# Altium schematic symbol library STMicroelectronics STM32 F1.SchLib: 244 symbols (part 10 of 24)
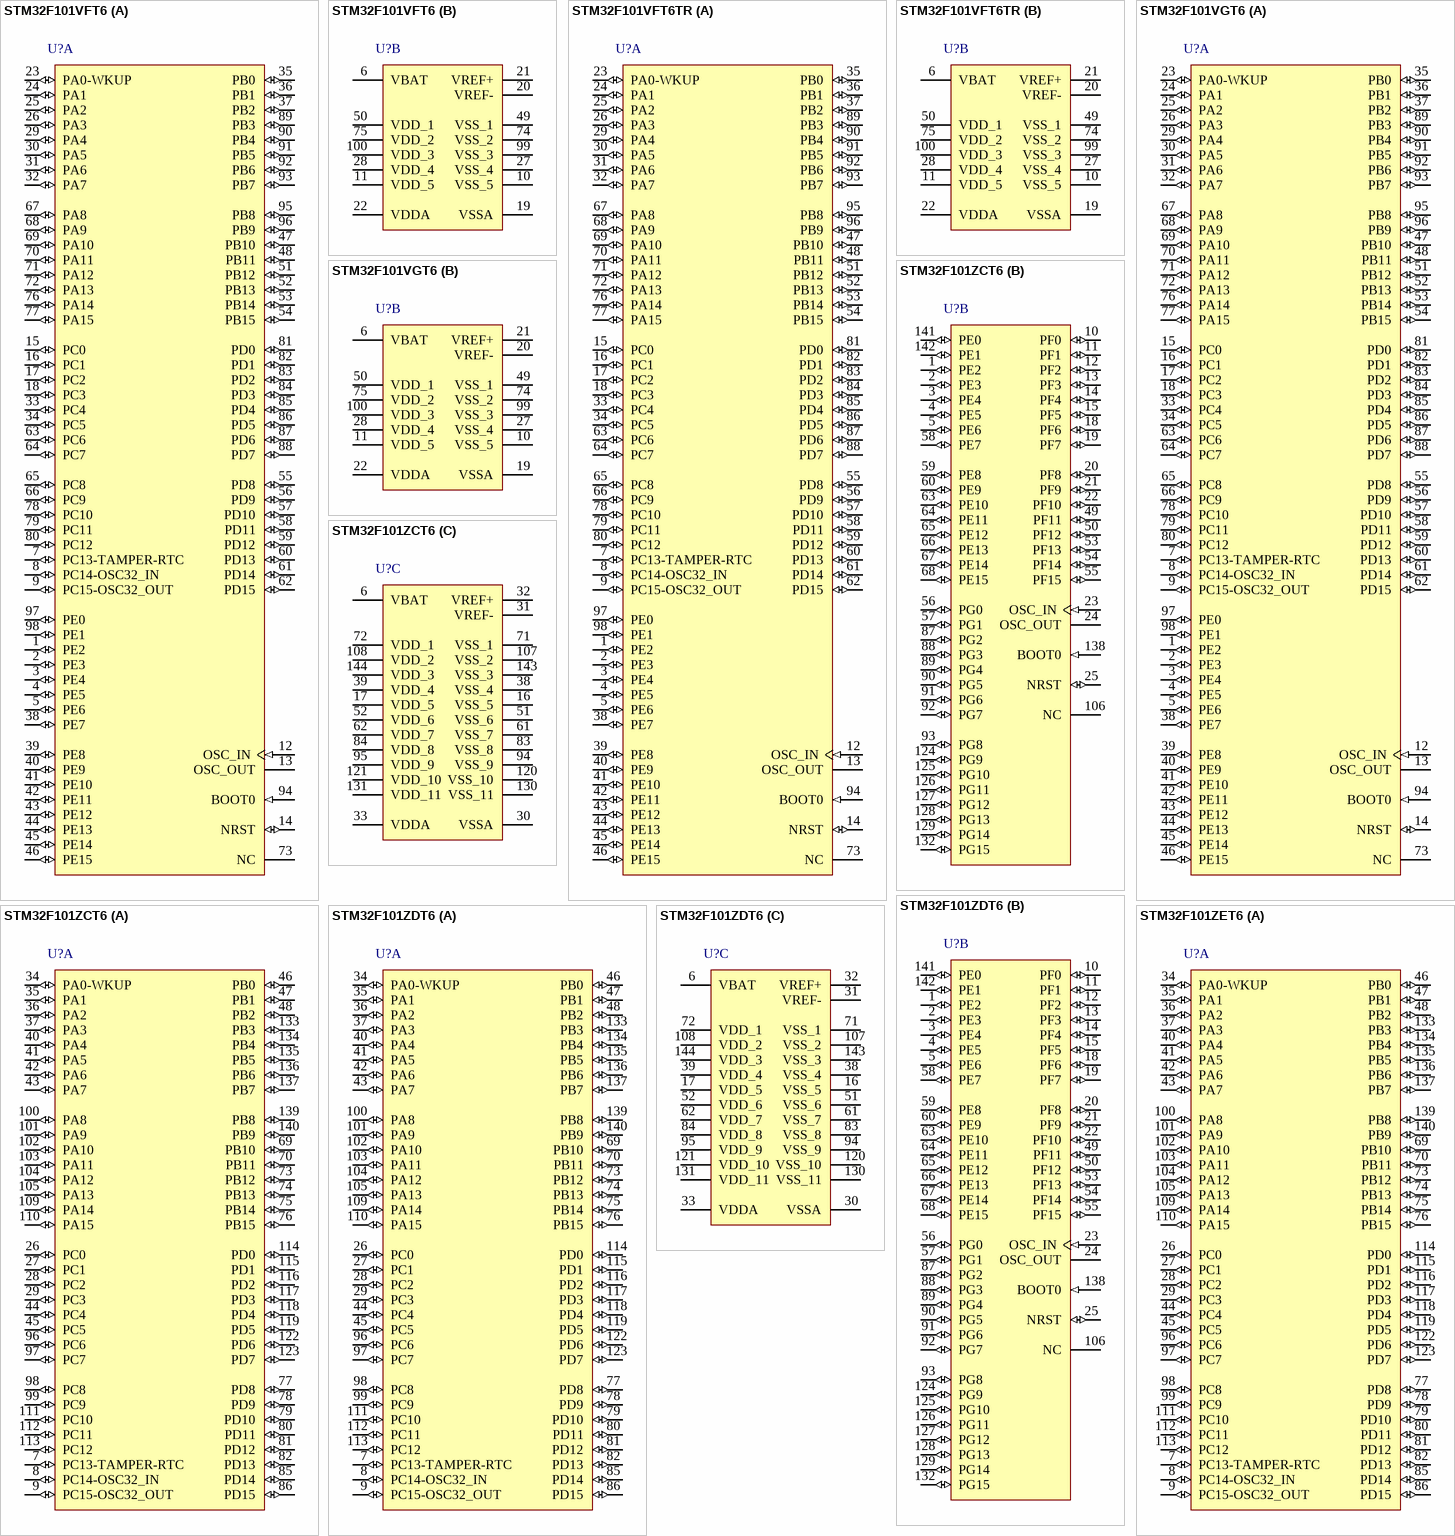
[diagram p51: symbols STM32F101VFT6 to STM32F101ZET6]

## STM32F101ZCT6
designator U?
ARM Cortex-M3 32-bit MCU, 256 KB Flash, 32 KB Internal RAM, 112 I/Os, 144-pin LQFP, -40 to 85 degC, Tray; PartNumber: STM32F101ZCT6; A/D Converter: 1x12-bit (16 Channel); D/A Converter: 1x12-bit (2 Channel); FLASH Size (Prog) (kB): 256; I/Os (High Current): 112; Internal RAM Size (kB): 32; Operating Frequency(F) (Processor speed) (MHz): 36; Supply Voltage(Vcc) min (V): 2; DatasheetVersion: Rev. 8; PackageVersion: Rev. 4, 06/2013; PackageReference: LQFP144; PackageDescription: 144-Pin Low Profile Quad Flat Package, 20 x 20 mm Body, 0.5 mm Pitch; Supplier 1: Digi-Key; Supplier Part Number 1: 497-11513-ND; Supplier 2: Farnell; Supplier Part Number 2: 1624133; Supplier 3: Newark; Supplier Part Number 3: 01P4096; Supplier 4: Mouser; Supplier Part Number 4: 511-STM32F101ZCT6; Core: ARM Cortex-M3; Packing: Tray; Mounting Technology: Surface Mount; ComponentLink1Description: Manufacturer URL; ComponentLink1URL: http://www.st.com/web/en/home.html; ComponentLink2Description: Datasheet; ComponentLink2URL: http://www.st.com/st-web-ui/static/active/en/resource/technical/document/datasheet/CD00191174.pdf; ComponentLink3Description: Package Specification; ComponentLink3URL: http://www.st.com/st-web-ui/static/active/en/resource/technical/document/datasheet/DM00037051.pdf
footprint STM-LQFP144_N (Thin QFP, 144-Leads, Body 20x20mm, Pitch 0.5mm, IPC Medium Density)
footprint STM-LQFP144_L (Thin QFP, 144-Leads, Body 20x20mm, Pitch 0.5mm, IPC High Density)
footprint STM-LQFP144_M (Thin QFP, 144-Leads, Body 20x20mm, Pitch 0.5mm, IPC Low Density)
footprint STM-LQFP144_V (Thin QFP, 144-Leads, Body 20x20mm, Pitch 0.5mm, ST Recommended)
part A pins: 7 PC13-TAMPER-RTC (io) "PC13-TAMPER-RTC/PC13/TAMPER-RTC", 8 PC14-OSC32_IN (io) "PC14-OSC32_IN/PC14/OSC32_IN", 9 PC15-OSC32_OUT (io) "PC15-OSC32_OUT/PC15/OSC32_OUT", 26 PC0 (io) "PC0/ADC_IN10", 27 PC1 (io) "PC1/ADC_IN11", 28 PC2 (io) "PC2/ADC_IN12", 29 PC3 (io) "PC3/ADC_IN13", 34 PA0-WKUP (io) "PA0-WKUP/PA0/WKUP/USART2_CTS/ADC_IN0/TIM5_CH1/TIM2_CH1_ETR", 35 PA1 (io) "PA1/USART2_RTS/ADC_IN1/TIM5_CH2/TIM2_CH2", 36 PA2 (io) "PA2/USART2_TX/TIM5_CH3/ADC_IN2/TIM2_CH3", 37 PA3 (io) "PA3/USART2_RX/TIM5_CH4/ADC_IN3/TIM2_CH4", 40 PA4 (io) "PA4/SPI1_NSS/DAC_OUT1/ADC_IN4/USART2_CK", 41 PA5 (io) "PA5/SPI1_SCK/DAC_OUT2/ADC_IN5", 42 PA6 (io) "PA6/SPI1_MISO/ADC_IN6/TIM3_CH1", 43 PA7 (io) "PA7/SPI1_MOSI/ADC_IN7/TIM3_CH2", 44 PC4 (io) "PC4/ADC_IN14", 45 PC5 (io) "PC5/ADC_IN15", 46 PB0 (io) "PB0/ADC_IN8/TIM3_CH3", 47 PB1 (io) "PB1/ADC_IN9/TIM3_CH4", 48 PB2 (io) "PB2/BOOT1", 69 PB10 (io) "PB10/I2C2_SCL/USART3_TX/TIM2_CH3", 70 PB11 (io) "PB11/I2C2_SDA/USART3_RX/TIM2_CH4", 73 PB12 (io) "PB12/SPI2_NSS/I2C2_SMBA/USART3_CK", 74 PB13 (io) "PB13/SPI2_SCK/USART3_CTS", 75 PB14 (io) "PB14/SPI2_MISO/USART3_RTS", 76 PB15 (io) "PB15/SPI2_MOSI", 77 PD8 (io) "PD8/FSMC_D13/USART3_TX", 78 PD9 (io) "PD9/FSMC_D14/USART3_RX", 79 PD10 (io) "PD10/FSMC_D15/USART3_CK", 80 PD11 (io) "PD11/FSMC_A16/USART3_CTS", 81 PD12 (io) "PD12/FSMC_A17/TIM4_CH1/USART3_RTS", 82 PD13 (io) "PD13/FSMC_A18/TIM4_CH2", 85 PD14 (io) "PD14/FSMC_D0/TIM4_CH3", 86 PD15 (io) "PD15/FSMC_D1/TIM4_CH4", 96 PC6 (io) "PC6/TIM3_CH1", 97 PC7 (io) "PC7/TIM3_CH2", 98 PC8 (io) "PC8/TIM3_CH3", 99 PC9 (io) "PC9/TIM3_CH4", 100 PA8 (io) "PA8/USART1_CK/MCO", 101 PA9 (io) "PA9/USART1_TX", 102 PA10 (io) "PA10/USART1_RX", 103 PA11 (io) "PA11/USART1_CTS", 104 PA12 (io) "PA12/USART1_RTS", 105 PA13 (io) "PA13/JTMS-SWDIO", 109 PA14 (io) "PA14/JTCK-SWCLK", 110 PA15 (io) "PA15/JTDI/SPI3_NSS/TIM2_CH1_ETR/SPI1_NSS", 111 PC10 (io) "PC10/UART4_TX/USART3_TX", 112 PC11 (io) "PC11/UART4_RX/USART3_RX", 113 PC12 (io) "PC12/UART5_TX/USART3_CK", 114 PD0 (io) "PD0/OSC_IN/FSMC_D2", 115 PD1 (io) "PD1/OSC_OUT/FSMC_D3", 116 PD2 (io) "PD2/TIM3_ETR/UART5_RX", 117 PD3 (io) "PD3/FSMC_CLK/USART2_CTS", 118 PD4 (io) "PD4/FSMC_NOE/USART2_RTS", 119 PD5 (io) "PD5/FSMC_NWE/USART2_TX", 122 PD6 (io) "PD6/FSMC_NWAIT/USART2_RX", 123 PD7 (io) "PD7/FSMC_NE1/FSMC_NCE2/USART2_CK", 133 PB3 (io) "PB3/JTDO/SPI3_SCK/TIM2_CH2/TRACESWO/SPI1_SCK", 134 PB4 (io) "PB4/NJTRST/SPI3_MISO/TIM3_CH1/SPI1_MISO", 135 PB5 (io) "PB5/I2C1_SMBA/SPI3_MOSI/TIM3_CH2/SPI1_MOSI", 136 PB6 (io) "PB6/I2C1_SCL/TIM4_CH1/USART1_TX", 137 PB7 (io) "PB7/I2C1_SDA/FSMC_NADV/TIM4_CH2/USART1_RX", 139 PB8 (io) "PB8/TIM4_CH3/I2C1_SCL", 140 PB9 (io) "PB9/TIM4_CH4/I2C1_SDA"
part B pins: 1 PE2 (io) "PE2/TRACECLK/FSMC_A23", 2 PE3 (io) "PE3/TRACED0/FSMC_A19", 3 PE4 (io) "PE4/TRACED1/FSMC_A20", 4 PE5 (io) "PE5/TRACED2/FSMC_A21", 5 PE6 (io) "PE6/TRACED3/FSMC_A22", 10 PF0 (io) "PF0/FSMC_A0", 11 PF1 (io) "PF1/FSMC_A1", 12 PF2 (io) "PF2/FSMC_A2", 13 PF3 (io) "PF3/FSMC_A3", 14 PF4 (io) "PF4/FSMC_A4", 15 PF5 (io) "PF5/FSMC_A5", 18 PF6 (io) "PF6/FSMC_NIORD", 19 PF7 (io) "PF7/FSMC_NREG", 20 PF8 (io) "PF8/FSMC_NIOWR", 21 PF9 (io) "PF9/FSMC_CD", 22 PF10 (io) "PF10/FSMC_INTR", 23 OSC_IN (in), 24 OSC_OUT, 25 NRST (io), 49 PF11 (io) "PF11/FSMC_NIOS16", 50 PF12 (io) "PF12/FSMC_A6", 53 PF13 (io) "PF13/FSMC_A7", 54 PF14 (io) "PF14/FSMC_A8", 55 PF15 (io) "PF15/FSMC_A9", 56 PG0 (io) "PG0/FSMC_A10", 57 PG1 (io) "PG1/FSMC_A11", 58 PE7 (io) "PE7/FSMC_D4", 59 PE8 (io) "PE8/FSMC_D5", 60 PE9 (io) "PE9/FSMC_D6", 63 PE10 (io) "PE10/FSMC_D7", 64 PE11 (io) "PE11/FSMC_D8", 65 PE12 (io) "PE12/FSMC_D9", 66 PE13 (io) "PE13/FSMC_D10", 67 PE14 (io) "PE14/FSMC_D11", 68 PE15 (io) "PE15/FSMC_D12", 87 PG2 (io) "PG2/FSMC_A12", 88 PG3 (io) "PG3/FSMC_A13", 89 PG4 (io) "PG4/FSMC_A14", 90 PG5 (io) "PG5/FSMC_A15", 91 PG6 (io) "PG6/FSMC_INT2", 92 PG7 (io) "PG7/FSMC_INT3", 93 PG8 (io), 106 NC, 124 PG9 (io) "PG9/FSMC_NE2/FSMC_NCE3", 125 PG10 (io) "PG10/FSMC_NE3/FSMC_NCE4_1", 126 PG11 (io) "PG11/FSMC_NCE4_2", 127 PG12 (io) "PG12/FSMC_NE4", 128 PG13 (io) "PG13/FSMC_A24", 129 PG14 (io) "PG14/FSMC_A25", 132 PG15 (io), 138 BOOT0 (in), 141 PE0 (io) "PE0/TIM4_ETR/FSMC_NBL0", 142 PE1 (io) "PE1/FSMC_NBL1"
part C pins: 6 VBAT (power), 16 VSS_5 (power), 17 VDD_5 (power), 30 VSSA (power), 31 VREF- (power), 32 VREF+ (power), 33 VDDA (power), 38 VSS_4 (power), 39 VDD_4 (power), 51 VSS_6 (power), 52 VDD_6 (power), 61 VSS_7 (power), 62 VDD_7 (power), 71 VSS_1 (power), 72 VDD_1 (power), 83 VSS_8 (power), 84 VDD_8 (power), 94 VSS_9 (power), 95 VDD_9 (power), 107 VSS_2 (power), 108 VDD_2 (power), 120 VSS_10 (power), 121 VDD_10 (power), 130 VSS_11 (power), 131 VDD_11 (power), 143 VSS_3 (power), 144 VDD_3 (power)

## STM32F101ZDT6
designator U?
ARM Cortex-M3 32-bit MCU, 384 KB Flash, 48 KB Internal RAM, 112 I/Os, 144-pin LQFP, -40 to 85 degC, Tray; PartNumber: STM32F101ZDT6; A/D Converter: 1x12-bit (16 Channel); D/A Converter: 1x12-bit (2 Channel); FLASH Size (Prog) (kB): 384; I/Os (High Current): 112; Internal RAM Size (kB): 48; Operating Frequency(F) (Processor speed) (MHz): 36; Supply Voltage(Vcc) min (V): 2; DatasheetVersion: Rev. 8; PackageVersion: Rev. 4, 06/2013; PackageReference: LQFP144; PackageDescription: 144-Pin Low Profile Quad Flat Package, 20 x 20 mm Body, 0.5 mm Pitch; Supplier 1: Digi-Key; Supplier Part Number 1: 497-11514-ND; Supplier 2: Farnell; Supplier Part Number 2: 1624134; Supplier 3: Newark; Supplier Part Number 3: 01P4097; Supplier 4: Mouser; Supplier Part Number 4: 511-STM32F101ZDT6; Core: ARM Cortex-M3; Packing: Tray; Mounting Technology: Surface Mount; ComponentLink1Description: Manufacturer URL; ComponentLink1URL: http://www.st.com/web/en/home.html; ComponentLink2Description: Datasheet; ComponentLink2URL: http://www.st.com/st-web-ui/static/active/en/resource/technical/document/datasheet/CD00191174.pdf; ComponentLink3Description: Package Specification; ComponentLink3URL: http://www.st.com/st-web-ui/static/active/en/resource/technical/document/datasheet/DM00037051.pdf
footprint STM-LQFP144_N (Thin QFP, 144-Leads, Body 20x20mm, Pitch 0.5mm, IPC Medium Density)
footprint STM-LQFP144_L (Thin QFP, 144-Leads, Body 20x20mm, Pitch 0.5mm, IPC High Density)
footprint STM-LQFP144_M (Thin QFP, 144-Leads, Body 20x20mm, Pitch 0.5mm, IPC Low Density)
footprint STM-LQFP144_V (Thin QFP, 144-Leads, Body 20x20mm, Pitch 0.5mm, ST Recommended)
part A pins: 7 PC13-TAMPER-RTC (io) "PC13-TAMPER-RTC/PC13/TAMPER-RTC", 8 PC14-OSC32_IN (io) "PC14-OSC32_IN/PC14/OSC32_IN", 9 PC15-OSC32_OUT (io) "PC15-OSC32_OUT/PC15/OSC32_OUT", 26 PC0 (io) "PC0/ADC_IN10", 27 PC1 (io) "PC1/ADC_IN11", 28 PC2 (io) "PC2/ADC_IN12", 29 PC3 (io) "PC3/ADC_IN13", 34 PA0-WKUP (io) "PA0-WKUP/PA0/WKUP/USART2_CTS/ADC_IN0/TIM5_CH1/TIM2_CH1_ETR", 35 PA1 (io) "PA1/USART2_RTS/ADC_IN1/TIM5_CH2/TIM2_CH2", 36 PA2 (io) "PA2/USART2_TX/TIM5_CH3/ADC_IN2/TIM2_CH3", 37 PA3 (io) "PA3/USART2_RX/TIM5_CH4/ADC_IN3/TIM2_CH4", 40 PA4 (io) "PA4/SPI1_NSS/DAC_OUT1/ADC_IN4/USART2_CK", 41 PA5 (io) "PA5/SPI1_SCK/DAC_OUT2/ADC_IN5", 42 PA6 (io) "PA6/SPI1_MISO/ADC_IN6/TIM3_CH1", 43 PA7 (io) "PA7/SPI1_MOSI/ADC_IN7/TIM3_CH2", 44 PC4 (io) "PC4/ADC_IN14", 45 PC5 (io) "PC5/ADC_IN15", 46 PB0 (io) "PB0/ADC_IN8/TIM3_CH3", 47 PB1 (io) "PB1/ADC_IN9/TIM3_CH4", 48 PB2 (io) "PB2/BOOT1", 69 PB10 (io) "PB10/I2C2_SCL/USART3_TX/TIM2_CH3", 70 PB11 (io) "PB11/I2C2_SDA/USART3_RX/TIM2_CH4", 73 PB12 (io) "PB12/SPI2_NSS/I2C2_SMBA/USART3_CK", 74 PB13 (io) "PB13/SPI2_SCK/USART3_CTS", 75 PB14 (io) "PB14/SPI2_MISO/USART3_RTS", 76 PB15 (io) "PB15/SPI2_MOSI", 77 PD8 (io) "PD8/FSMC_D13/USART3_TX", 78 PD9 (io) "PD9/FSMC_D14/USART3_RX", 79 PD10 (io) "PD10/FSMC_D15/USART3_CK", 80 PD11 (io) "PD11/FSMC_A16/USART3_CTS", 81 PD12 (io) "PD12/FSMC_A17/TIM4_CH1/USART3_RTS", 82 PD13 (io) "PD13/FSMC_A18/TIM4_CH2", 85 PD14 (io) "PD14/FSMC_D0/TIM4_CH3", 86 PD15 (io) "PD15/FSMC_D1/TIM4_CH4", 96 PC6 (io) "PC6/TIM3_CH1", 97 PC7 (io) "PC7/TIM3_CH2", 98 PC8 (io) "PC8/TIM3_CH3", 99 PC9 (io) "PC9/TIM3_CH4", 100 PA8 (io) "PA8/USART1_CK/MCO", 101 PA9 (io) "PA9/USART1_TX", 102 PA10 (io) "PA10/USART1_RX", 103 PA11 (io) "PA11/USART1_CTS", 104 PA12 (io) "PA12/USART1_RTS", 105 PA13 (io) "PA13/JTMS-SWDIO", 109 PA14 (io) "PA14/JTCK-SWCLK", 110 PA15 (io) "PA15/JTDI/SPI3_NSS/TIM2_CH1_ETR/SPI1_NSS", 111 PC10 (io) "PC10/UART4_TX/USART3_TX", 112 PC11 (io) "PC11/UART4_RX/USART3_RX", 113 PC12 (io) "PC12/UART5_TX/USART3_CK", 114 PD0 (io) "PD0/OSC_IN/FSMC_D2", 115 PD1 (io) "PD1/OSC_OUT/FSMC_D3", 116 PD2 (io) "PD2/TIM3_ETR/UART5_RX", 117 PD3 (io) "PD3/FSMC_CLK/USART2_CTS", 118 PD4 (io) "PD4/FSMC_NOE/USART2_RTS", 119 PD5 (io) "PD5/FSMC_NWE/USART2_TX", 122 PD6 (io) "PD6/FSMC_NWAIT/USART2_RX", 123 PD7 (io) "PD7/FSMC_NE1/FSMC_NCE2/USART2_CK", 133 PB3 (io) "PB3/JTDO/SPI3_SCK/TIM2_CH2/TRACESWO/SPI1_SCK", 134 PB4 (io) "PB4/NJTRST/SPI3_MISO/TIM3_CH1/SPI1_MISO", 135 PB5 (io) "PB5/I2C1_SMBA/SPI3_MOSI/TIM3_CH2/SPI1_MOSI", 136 PB6 (io) "PB6/I2C1_SCL/TIM4_CH1/USART1_TX", 137 PB7 (io) "PB7/I2C1_SDA/FSMC_NADV/TIM4_CH2/USART1_RX", 139 PB8 (io) "PB8/TIM4_CH3/I2C1_SCL", 140 PB9 (io) "PB9/TIM4_CH4/I2C1_SDA"
part B pins: 1 PE2 (io) "PE2/TRACECLK/FSMC_A23", 2 PE3 (io) "PE3/TRACED0/FSMC_A19", 3 PE4 (io) "PE4/TRACED1/FSMC_A20", 4 PE5 (io) "PE5/TRACED2/FSMC_A21", 5 PE6 (io) "PE6/TRACED3/FSMC_A22", 10 PF0 (io) "PF0/FSMC_A0", 11 PF1 (io) "PF1/FSMC_A1", 12 PF2 (io) "PF2/FSMC_A2", 13 PF3 (io) "PF3/FSMC_A3", 14 PF4 (io) "PF4/FSMC_A4", 15 PF5 (io) "PF5/FSMC_A5", 18 PF6 (io) "PF6/FSMC_NIORD", 19 PF7 (io) "PF7/FSMC_NREG", 20 PF8 (io) "PF8/FSMC_NIOWR", 21 PF9 (io) "PF9/FSMC_CD", 22 PF10 (io) "PF10/FSMC_INTR", 23 OSC_IN (in), 24 OSC_OUT, 25 NRST (io), 49 PF11 (io) "PF11/FSMC_NIOS16", 50 PF12 (io) "PF12/FSMC_A6", 53 PF13 (io) "PF13/FSMC_A7", 54 PF14 (io) "PF14/FSMC_A8", 55 PF15 (io) "PF15/FSMC_A9", 56 PG0 (io) "PG0/FSMC_A10", 57 PG1 (io) "PG1/FSMC_A11", 58 PE7 (io) "PE7/FSMC_D4", 59 PE8 (io) "PE8/FSMC_D5", 60 PE9 (io) "PE9/FSMC_D6", 63 PE10 (io) "PE10/FSMC_D7", 64 PE11 (io) "PE11/FSMC_D8", 65 PE12 (io) "PE12/FSMC_D9", 66 PE13 (io) "PE13/FSMC_D10", 67 PE14 (io) "PE14/FSMC_D11", 68 PE15 (io) "PE15/FSMC_D12", 87 PG2 (io) "PG2/FSMC_A12", 88 PG3 (io) "PG3/FSMC_A13", 89 PG4 (io) "PG4/FSMC_A14", 90 PG5 (io) "PG5/FSMC_A15", 91 PG6 (io) "PG6/FSMC_INT2", 92 PG7 (io) "PG7/FSMC_INT3", 93 PG8 (io), 106 NC, 124 PG9 (io) "PG9/FSMC_NE2/FSMC_NCE3", 125 PG10 (io) "PG10/FSMC_NE3/FSMC_NCE4_1", 126 PG11 (io) "PG11/FSMC_NCE4_2", 127 PG12 (io) "PG12/FSMC_NE4", 128 PG13 (io) "PG13/FSMC_A24", 129 PG14 (io) "PG14/FSMC_A25", 132 PG15 (io), 138 BOOT0 (in), 141 PE0 (io) "PE0/TIM4_ETR/FSMC_NBL0", 142 PE1 (io) "PE1/FSMC_NBL1"
part C pins: 6 VBAT (power), 16 VSS_5 (power), 17 VDD_5 (power), 30 VSSA (power), 31 VREF- (power), 32 VREF+ (power), 33 VDDA (power), 38 VSS_4 (power), 39 VDD_4 (power), 51 VSS_6 (power), 52 VDD_6 (power), 61 VSS_7 (power), 62 VDD_7 (power), 71 VSS_1 (power), 72 VDD_1 (power), 83 VSS_8 (power), 84 VDD_8 (power), 94 VSS_9 (power), 95 VDD_9 (power), 107 VSS_2 (power), 108 VDD_2 (power), 120 VSS_10 (power), 121 VDD_10 (power), 130 VSS_11 (power), 131 VDD_11 (power), 143 VSS_3 (power), 144 VDD_3 (power)

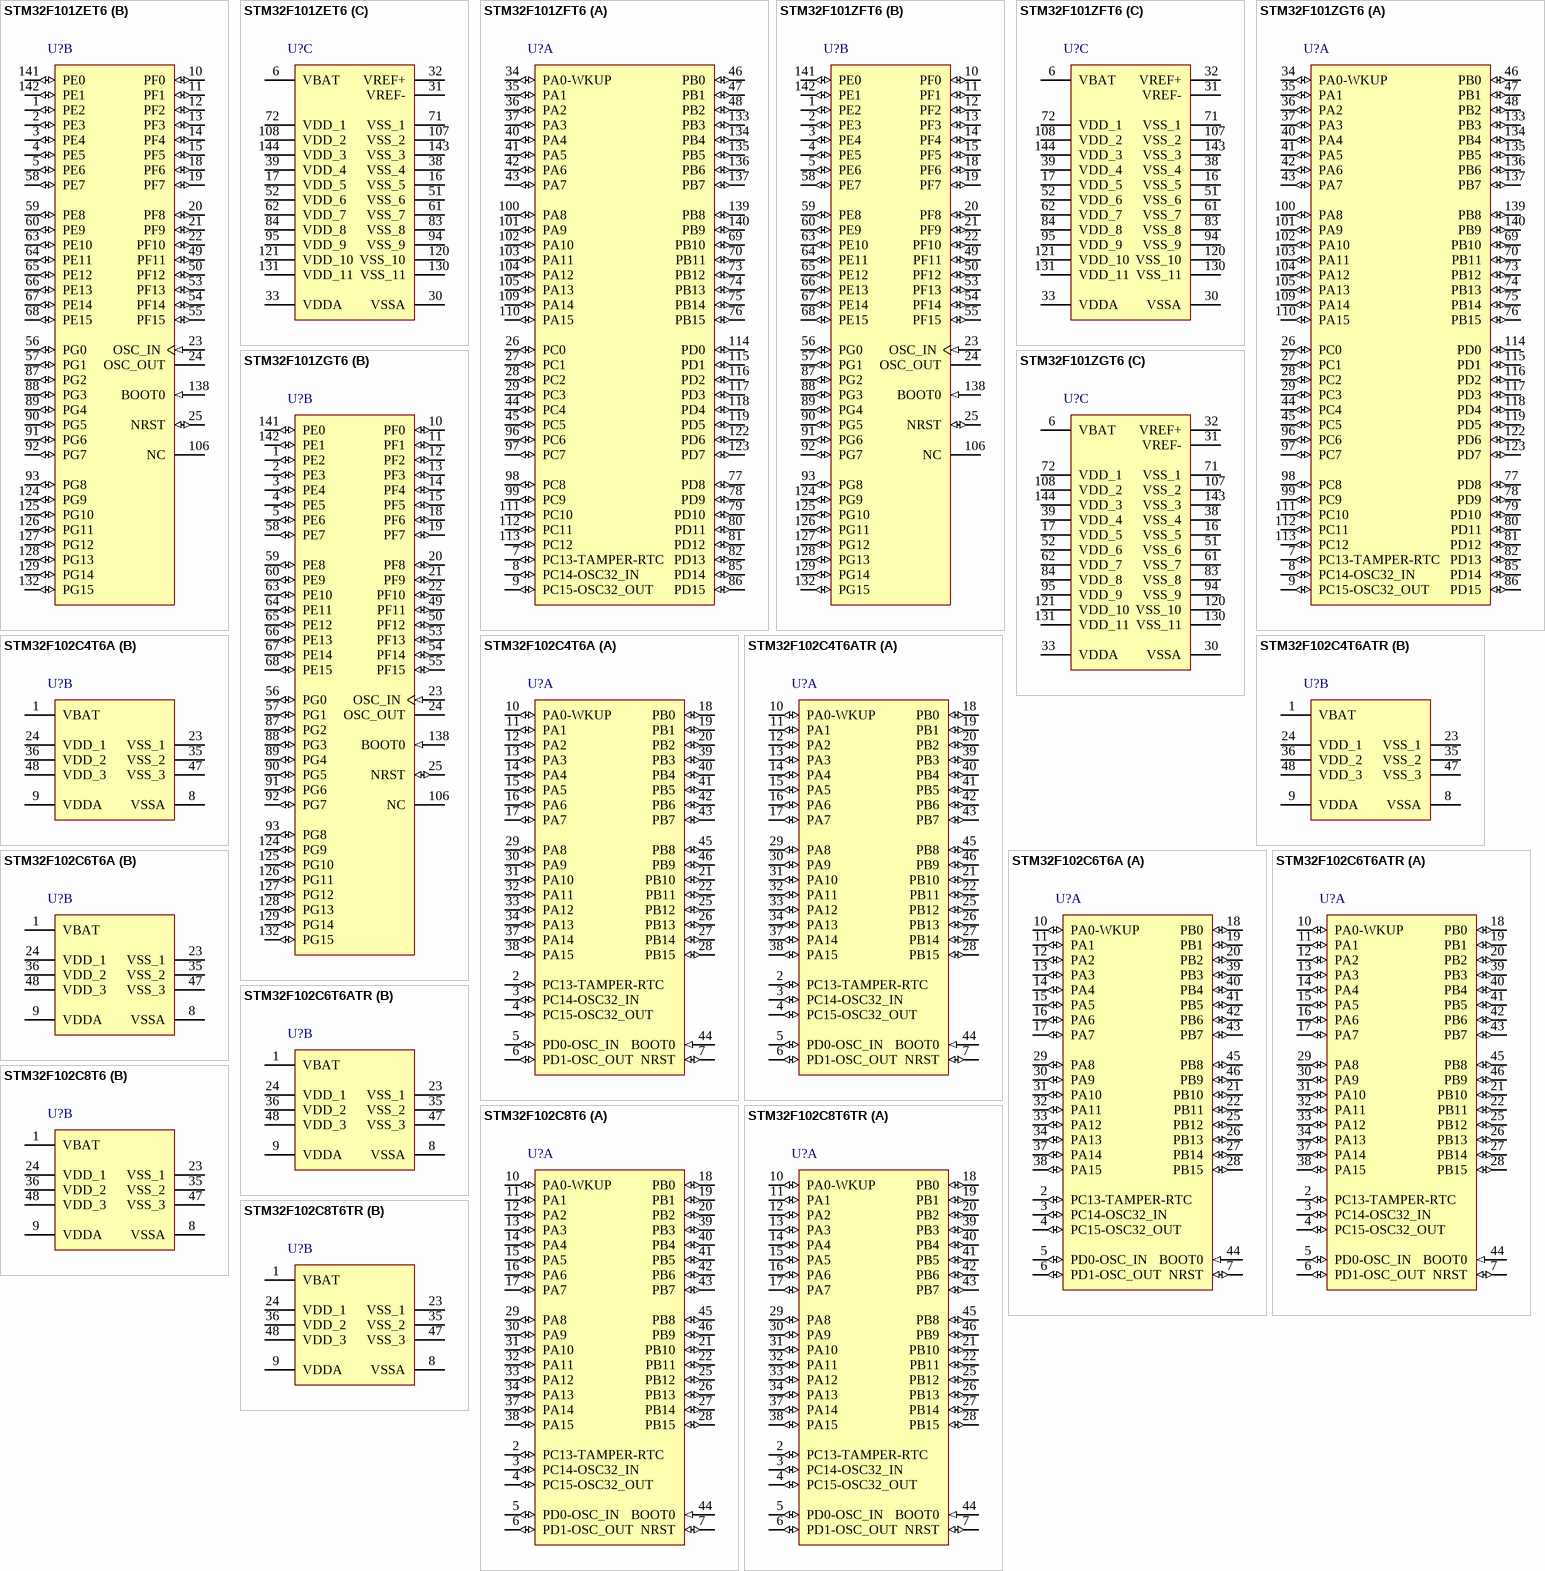
[diagram p16: symbols STM32F101ZET6 to STM32F102C8T6TR]

## STM32F101ZET6
designator U?
ARM Cortex-M3 32-bit MCU, 512 KB Flash, 48 KB Internal RAM, 112 I/Os, 144-pin LQFP, -40 to 85 degC, Tray; PartNumber: STM32F101ZET6; A/D Converter: 1x12-bit (16 Channel); D/A Converter: 1x12-bit (2 Channel); FLASH Size (Prog) (kB): 512; I/Os (High Current): 112; Internal RAM Size (kB): 48; Operating Frequency(F) (Processor speed) (MHz): 36; Supply Voltage(Vcc) min (V): 2; DatasheetVersion: Rev. 8; PackageVersion: Rev. 4, 06/2013; PackageReference: LQFP144; PackageDescription: 144-Pin Low Profile Quad Flat Package, 20 x 20 mm Body, 0.5 mm Pitch; Supplier 1: Digi-Key; Supplier Part Number 1: 497-6439-ND; Supplier 2: Farnell; Supplier Part Number 2: 1624135; Supplier 3: Newark; Supplier Part Number 3: 01P4098; Supplier 4: Newark; Supplier Part Number 4: 57P1209; Supplier 5: Mouser; Supplier Part Number 5: 511-STM32F101ZET6; Core: ARM Cortex-M3; Packing: Tray; Mounting Technology: Surface Mount; ComponentLink1Description: Manufacturer URL; ComponentLink1URL: http://www.st.com/web/en/home.html; ComponentLink2Description: Datasheet; ComponentLink2URL: http://www.st.com/st-web-ui/static/active/en/resource/technical/document/datasheet/CD00191174.pdf; ComponentLink3Description: Package Specification; ComponentLink3URL: http://www.st.com/st-web-ui/static/active/en/resource/technical/document/datasheet/DM00037051.pdf
footprint STM-LQFP144_N (Thin QFP, 144-Leads, Body 20x20mm, Pitch 0.5mm, IPC Medium Density)
footprint STM-LQFP144_L (Thin QFP, 144-Leads, Body 20x20mm, Pitch 0.5mm, IPC High Density)
footprint STM-LQFP144_M (Thin QFP, 144-Leads, Body 20x20mm, Pitch 0.5mm, IPC Low Density)
footprint STM-LQFP144_V (Thin QFP, 144-Leads, Body 20x20mm, Pitch 0.5mm, ST Recommended)
part A pins: 7 PC13-TAMPER-RTC (io) "PC13-TAMPER-RTC/PC13/TAMPER-RTC", 8 PC14-OSC32_IN (io) "PC14-OSC32_IN/PC14/OSC32_IN", 9 PC15-OSC32_OUT (io) "PC15-OSC32_OUT/PC15/OSC32_OUT", 26 PC0 (io) "PC0/ADC_IN10", 27 PC1 (io) "PC1/ADC_IN11", 28 PC2 (io) "PC2/ADC_IN12", 29 PC3 (io) "PC3/ADC_IN13", 34 PA0-WKUP (io) "PA0-WKUP/PA0/WKUP/USART2_CTS/ADC_IN0/TIM5_CH1/TIM2_CH1_ETR", 35 PA1 (io) "PA1/USART2_RTS/ADC_IN1/TIM5_CH2/TIM2_CH2", 36 PA2 (io) "PA2/USART2_TX/TIM5_CH3/ADC_IN2/TIM2_CH3", 37 PA3 (io) "PA3/USART2_RX/TIM5_CH4/ADC_IN3/TIM2_CH4", 40 PA4 (io) "PA4/SPI1_NSS/DAC_OUT1/ADC_IN4/USART2_CK", 41 PA5 (io) "PA5/SPI1_SCK/DAC_OUT2/ADC_IN5", 42 PA6 (io) "PA6/SPI1_MISO/ADC_IN6/TIM3_CH1", 43 PA7 (io) "PA7/SPI1_MOSI/ADC_IN7/TIM3_CH2", 44 PC4 (io) "PC4/ADC_IN14", 45 PC5 (io) "PC5/ADC_IN15", 46 PB0 (io) "PB0/ADC_IN8/TIM3_CH3", 47 PB1 (io) "PB1/ADC_IN9/TIM3_CH4", 48 PB2 (io) "PB2/BOOT1", 69 PB10 (io) "PB10/I2C2_SCL/USART3_TX/TIM2_CH3", 70 PB11 (io) "PB11/I2C2_SDA/USART3_RX/TIM2_CH4", 73 PB12 (io) "PB12/SPI2_NSS/I2C2_SMBA/USART3_CK", 74 PB13 (io) "PB13/SPI2_SCK/USART3_CTS", 75 PB14 (io) "PB14/SPI2_MISO/USART3_RTS", 76 PB15 (io) "PB15/SPI2_MOSI", 77 PD8 (io) "PD8/FSMC_D13/USART3_TX", 78 PD9 (io) "PD9/FSMC_D14/USART3_RX", 79 PD10 (io) "PD10/FSMC_D15/USART3_CK", 80 PD11 (io) "PD11/FSMC_A16/USART3_CTS", 81 PD12 (io) "PD12/FSMC_A17/TIM4_CH1/USART3_RTS", 82 PD13 (io) "PD13/FSMC_A18/TIM4_CH2", 85 PD14 (io) "PD14/FSMC_D0/TIM4_CH3", 86 PD15 (io) "PD15/FSMC_D1/TIM4_CH4", 96 PC6 (io) "PC6/TIM3_CH1", 97 PC7 (io) "PC7/TIM3_CH2", 98 PC8 (io) "PC8/TIM3_CH3", 99 PC9 (io) "PC9/TIM3_CH4", 100 PA8 (io) "PA8/USART1_CK/MCO", 101 PA9 (io) "PA9/USART1_TX", 102 PA10 (io) "PA10/USART1_RX", 103 PA11 (io) "PA11/USART1_CTS", 104 PA12 (io) "PA12/USART1_RTS", 105 PA13 (io) "PA13/JTMS-SWDIO", 109 PA14 (io) "PA14/JTCK-SWCLK", 110 PA15 (io) "PA15/JTDI/SPI3_NSS/TIM2_CH1_ETR/SPI1_NSS", 111 PC10 (io) "PC10/UART4_TX/USART3_TX", 112 PC11 (io) "PC11/UART4_RX/USART3_RX", 113 PC12 (io) "PC12/UART5_TX/USART3_CK", 114 PD0 (io) "PD0/OSC_IN/FSMC_D2", 115 PD1 (io) "PD1/OSC_OUT/FSMC_D3", 116 PD2 (io) "PD2/TIM3_ETR/UART5_RX", 117 PD3 (io) "PD3/FSMC_CLK/USART2_CTS", 118 PD4 (io) "PD4/FSMC_NOE/USART2_RTS", 119 PD5 (io) "PD5/FSMC_NWE/USART2_TX", 122 PD6 (io) "PD6/FSMC_NWAIT/USART2_RX", 123 PD7 (io) "PD7/FSMC_NE1/FSMC_NCE2/USART2_CK", 133 PB3 (io) "PB3/JTDO/SPI3_SCK/TIM2_CH2/TRACESWO/SPI1_SCK", 134 PB4 (io) "PB4/NJTRST/SPI3_MISO/TIM3_CH1/SPI1_MISO", 135 PB5 (io) "PB5/I2C1_SMBA/SPI3_MOSI/TIM3_CH2/SPI1_MOSI", 136 PB6 (io) "PB6/I2C1_SCL/TIM4_CH1/USART1_TX", 137 PB7 (io) "PB7/I2C1_SDA/FSMC_NADV/TIM4_CH2/USART1_RX", 139 PB8 (io) "PB8/TIM4_CH3/I2C1_SCL", 140 PB9 (io) "PB9/TIM4_CH4/I2C1_SDA"
part B pins: 1 PE2 (io) "PE2/TRACECLK/FSMC_A23", 2 PE3 (io) "PE3/TRACED0/FSMC_A19", 3 PE4 (io) "PE4/TRACED1/FSMC_A20", 4 PE5 (io) "PE5/TRACED2/FSMC_A21", 5 PE6 (io) "PE6/TRACED3/FSMC_A22", 10 PF0 (io) "PF0/FSMC_A0", 11 PF1 (io) "PF1/FSMC_A1", 12 PF2 (io) "PF2/FSMC_A2", 13 PF3 (io) "PF3/FSMC_A3", 14 PF4 (io) "PF4/FSMC_A4", 15 PF5 (io) "PF5/FSMC_A5", 18 PF6 (io) "PF6/FSMC_NIORD", 19 PF7 (io) "PF7/FSMC_NREG", 20 PF8 (io) "PF8/FSMC_NIOWR", 21 PF9 (io) "PF9/FSMC_CD", 22 PF10 (io) "PF10/FSMC_INTR", 23 OSC_IN (in), 24 OSC_OUT, 25 NRST (io), 49 PF11 (io) "PF11/FSMC_NIOS16", 50 PF12 (io) "PF12/FSMC_A6", 53 PF13 (io) "PF13/FSMC_A7", 54 PF14 (io) "PF14/FSMC_A8", 55 PF15 (io) "PF15/FSMC_A9", 56 PG0 (io) "PG0/FSMC_A10", 57 PG1 (io) "PG1/FSMC_A11", 58 PE7 (io) "PE7/FSMC_D4", 59 PE8 (io) "PE8/FSMC_D5", 60 PE9 (io) "PE9/FSMC_D6", 63 PE10 (io) "PE10/FSMC_D7", 64 PE11 (io) "PE11/FSMC_D8", 65 PE12 (io) "PE12/FSMC_D9", 66 PE13 (io) "PE13/FSMC_D10", 67 PE14 (io) "PE14/FSMC_D11", 68 PE15 (io) "PE15/FSMC_D12", 87 PG2 (io) "PG2/FSMC_A12", 88 PG3 (io) "PG3/FSMC_A13", 89 PG4 (io) "PG4/FSMC_A14", 90 PG5 (io) "PG5/FSMC_A15", 91 PG6 (io) "PG6/FSMC_INT2", 92 PG7 (io) "PG7/FSMC_INT3", 93 PG8 (io), 106 NC, 124 PG9 (io) "PG9/FSMC_NE2/FSMC_NCE3", 125 PG10 (io) "PG10/FSMC_NE3/FSMC_NCE4_1", 126 PG11 (io) "PG11/FSMC_NCE4_2", 127 PG12 (io) "PG12/FSMC_NE4", 128 PG13 (io) "PG13/FSMC_A24", 129 PG14 (io) "PG14/FSMC_A25", 132 PG15 (io), 138 BOOT0 (in), 141 PE0 (io) "PE0/TIM4_ETR/FSMC_NBL0", 142 PE1 (io) "PE1/FSMC_NBL1"
part C pins: 6 VBAT (power), 16 VSS_5 (power), 17 VDD_5 (power), 30 VSSA (power), 31 VREF- (power), 32 VREF+ (power), 33 VDDA (power), 38 VSS_4 (power), 39 VDD_4 (power), 51 VSS_6 (power), 52 VDD_6 (power), 61 VSS_7 (power), 62 VDD_7 (power), 71 VSS_1 (power), 72 VDD_1 (power), 83 VSS_8 (power), 84 VDD_8 (power), 94 VSS_9 (power), 95 VDD_9 (power), 107 VSS_2 (power), 108 VDD_2 (power), 120 VSS_10 (power), 121 VDD_10 (power), 130 VSS_11 (power), 131 VDD_11 (power), 143 VSS_3 (power), 144 VDD_3 (power)

## STM32F101ZFT6
designator U?
ARM Cortex-M3 32-bit MCU, 768 KB Flash, 80 KB Internal RAM, 112 I/Os, 144-pin LQFP, -40 to 85 degC, Tray; PartNumber: STM32F101ZFT6; A/D Converter: 2x12-bit (16 Channels); D/A Converter: 2x12-bit (2 Channels); FLASH Size (Prog) (kB): 768; I/Os (High Current): 112; Internal RAM Size (kB): 80; Operating Frequency(F) (Processor speed) (MHz): 36; Supply Voltage(Vcc) min (V): 2; DatasheetVersion: Rev. 2; PackageVersion: Rev. 4, 06/2013; PackageReference: LQFP144; PackageDescription: 144-Pin Low Profile Quad Flat Package, 20 x 20 mm Body, 0.5 mm Pitch; Supplier 1: Farnell; Supplier Part Number 1: 2333356; Supplier 2: Newark; Supplier Part Number 2: 99W9775; Supplier 3: Mouser; Supplier Part Number 3: N/A; Core: ARM Cortex-M3; Packing: Tray; Mounting Technology: Surface Mount; ComponentLink1Description: Manufacturer URL; ComponentLink1URL: http://www.st.com/web/en/home.html; ComponentLink2Description: Datasheet; ComponentLink2URL: http://www.st.com/st-web-ui/static/active/en/resource/technical/document/datasheet/CD00253739.pdf; ComponentLink3Description: Package Specification; ComponentLink3URL: http://www.st.com/st-web-ui/static/active/en/resource/technical/document/datasheet/DM00037051.pdf
footprint STM-LQFP144_N (Thin QFP, 144-Leads, Body 20x20mm, Pitch 0.5mm, IPC Medium Density)
footprint STM-LQFP144_L (Thin QFP, 144-Leads, Body 20x20mm, Pitch 0.5mm, IPC High Density)
footprint STM-LQFP144_M (Thin QFP, 144-Leads, Body 20x20mm, Pitch 0.5mm, IPC Low Density)
footprint STM-LQFP144_V (Thin QFP, 144-Leads, Body 20x20mm, Pitch 0.5mm, ST Recommended)
part A pins: 7 PC13-TAMPER-RTC (io) "PC13-TAMPER-RTC/PC13/TAMPER-RTC", 8 PC14-OSC32_IN (io) "PC14-OSC32_IN/PC14/OSC32_IN", 9 PC15-OSC32_OUT (io) "PC15-OSC32_OUT/PC15/OSC32_OUT", 26 PC0 (io) "PC0/ADC_IN10", 27 PC1 (io) "PC1/ADC_IN11", 28 PC2 (io) "PC2/ADC_IN12", 29 PC3 (io) "PC3/ADC_IN13", 34 PA0-WKUP (io) "PA0-WKUP/PA0/WKUP/USART2_CTS/ADC_IN0/TIM5_CH1/TIM2_CH1_ETR", 35 PA1 (io) "PA1/USART2_RTS/ADC_IN1/TIM5_CH2/TIM2_CH2", 36 PA2 (io) "PA2/USART2_TX/TIM5_CH3/ADC_IN2/TIM2_CH3/TIM9_CH1", 37 PA3 (io) "PA3/USART2_RX/TIM5_CH4/ADC_IN3/TIM2_CH4/TIM9_CH2", 40 PA4 (io) "PA4/SPI1_NSS/DAC_OUT1/ADC_IN4/USART2_CK", 41 PA5 (io) "PA5/SPI1_SCK/DAC_OUT2/ADC_IN5", 42 PA6 (io) "PA6/SPI1_MISO/ADC_IN6/TIM3_CH1/TIM13_CH1", 43 PA7 (io) "PA7/SPI1_MOSI/ADC_IN7/TIM3_CH2/TIM14_CH1", 44 PC4 (io) "PC4/ADC_IN14", 45 PC5 (io) "PC5/ADC_IN15", 46 PB0 (io) "PB0/ADC_IN8/TIM3_CH3", 47 PB1 (io) "PB1/ADC_IN9/TIM3_CH4", 48 PB2 (io) "PB2/BOOT1", 69 PB10 (io) "PB10/I2C2_SCL/USART3_TX/TIM2_CH3", 70 PB11 (io) "PB11/I2C2_SDA/USART3_RX/TIM2_CH4", 73 PB12 (io) "PB12/SPI2_NSS/I2C2_SMBA/USART3_CK", 74 PB13 (io) "PB13/SPI2_SCK/USART3_CTS", 75 PB14 (io) "PB14/SPI2_MISO/USART3_RTS/TIM12_CH1", 76 PB15 (io) "PB15/SPI2_MOSI/TIM12_CH2", 77 PD8 (io) "PD8/FSMC_D13/USART3_TX", 78 PD9 (io) "PD9/FSMC_D14/USART3_RX", 79 PD10 (io) "PD10/FSMC_D15/USART3_CK", 80 PD11 (io) "PD11/FSMC_A16/USART3_CTS", 81 PD12 (io) "PD12/FSMC_A17/TIM4_CH1/USART3_RTS", 82 PD13 (io) "PD13/FSMC_A18/TIM4_CH2", 85 PD14 (io) "PD14/FSMC_D0/TIM4_CH3", 86 PD15 (io) "PD15/FSMC_D1/TIM4_CH4", 96 PC6 (io) "PC6/TIM3_CH1", 97 PC7 (io) "PC7/TIM3_CH2", 98 PC8 (io) "PC8/TIM3_CH3", 99 PC9 (io) "PC9/TIM3_CH4", 100 PA8 (io) "PA8/USART1_CK/MCO", 101 PA9 (io) "PA9/USART1_TX", 102 PA10 (io) "PA10/USART1_RX", 103 PA11 (io) "PA11/USART1_CTS", 104 PA12 (io) "PA12/USART1_RTS", 105 PA13 (io) "PA13/JTMS-SWDIO", 109 PA14 (io) "PA14/JTCK-SWCLK", 110 PA15 (io) "PA15/JTDI/SPI3_NSS/TIM2_CH1_ETR/SPI1_NSS", 111 PC10 (io) "PC10/UART4_TX/USART3_TX", 112 PC11 (io) "PC11/UART4_RX/USART3_RX", 113 PC12 (io) "PC12/UART5_TX/USART3_CK", 114 PD0 (io) "PD0/OSC_IN/FSMC_D2", 115 PD1 (io) "PD1/OSC_OUT/FSMC_D3", 116 PD2 (io) "PD2/TIM3_ETR/UART5_RX", 117 PD3 (io) "PD3/FSMC_CLK/USART2_CTS", 118 PD4 (io) "PD4/FSMC_NOE/USART2_RTS", 119 PD5 (io) "PD5/FSMC_NWE/USART2_TX", 122 PD6 (io) "PD6/FSMC_NWAIT/USART2_RX", 123 PD7 (io) "PD7/FSMC_NE1/FSMC_NCE2/USART2_CK", 133 PB3 (io) "PB3/JTDO/SPI3_SCK/TIM2_CH2/TRACESWO/SPI1_SCK", 134 PB4 (io) "PB4/NJTRST/SPI3_MISO/TIM3_CH1/SPI1_MISO", 135 PB5 (io) "PB5/I2C1_SMBA/SPI3_MOSI/TIM3_CH2/SPI1_MOSI", 136 PB6 (io) "PB6/I2C1_SCL/TIM4_CH1/USART1_TX", 137 PB7 (io) "PB7/I2C1_SDA/FSMC_NADV/TIM4_CH2/USART1_RX", 139 PB8 (io) "PB8/TIM4_CH3/I2C1_SCL", 140 PB9 (io) "PB9/TIM4_CH4/I2C1_SDA"
part B pins: 1 PE2 (io) "PE2/TRACECLK/FSMC_A23", 2 PE3 (io) "PE3/TRACED0/FSMC_A19", 3 PE4 (io) "PE4/TRACED1/FSMC_A20", 4 PE5 (io) "PE5/TRACED2/FSMC_A21/TIM9_CH1", 5 PE6 (io) "PE6/TRACED3/FSMC_A22/TIM9_CH2", 10 PF0 (io) "PF0/FSMC_A0", 11 PF1 (io) "PF1/FSMC_A1", 12 PF2 (io) "PF2/FSMC_A2", 13 PF3 (io) "PF3/FSMC_A3", 14 PF4 (io) "PF4/FSMC_A4", 15 PF5 (io) "PF5/FSMC_A5", 18 PF6 (io) "PF6/FSMC_NIORD/TIM10_CH1", 19 PF7 (io) "PF7/FSMC_NREG/TIM11_CH1", 20 PF8 (io) "PF8/FSMC_NIOWR/TIM3_CH1", 21 PF9 (io) "PF9/FSMC_CD/TIM14_CH1", 22 PF10 (io) "PF10/FSMC_INTR", 23 OSC_IN (in), 24 OSC_OUT, 25 NRST (io), 49 PF11 (io) "PF11/FSMC_NIOS16", 50 PF12 (io) "PF12/FSMC_A6", 53 PF13 (io) "PF13/FSMC_A7", 54 PF14 (io) "PF14/FSMC_A8", 55 PF15 (io) "PF15/FSMC_A9", 56 PG0 (io) "PG0/FSMC_A10", 57 PG1 (io) "PG1/FSMC_A11", 58 PE7 (io) "PE7/FSMC_D4", 59 PE8 (io) "PE8/FSMC_D5", 60 PE9 (io) "PE9/FSMC_D6", 63 PE10 (io) "PE10/FSMC_D7", 64 PE11 (io) "PE11/FSMC_D8", 65 PE12 (io) "PE12/FSMC_D9", 66 PE13 (io) "PE13/FSMC_D10", 67 PE14 (io) "PE14/FSMC_D11", 68 PE15 (io) "PE15/FSMC_D12", 87 PG2 (io) "PG2/FSMC_A12", 88 PG3 (io) "PG3/FSMC_A13", 89 PG4 (io) "PG4/FSMC_A14", 90 PG5 (io) "PG5/FSMC_A15", 91 PG6 (io) "PG6/FSMC_INT2", 92 PG7 (io) "PG7/FSMC_INT3", 93 PG8 (io), 106 NC, 124 PG9 (io) "PG9/FSMC_NE2/FSMC_NCE3", 125 PG10 (io) "PG10/FSMC_NE3/FSMC_NCE4_1", 126 PG11 (io) "PG11/FSMC_NCE4_2", 127 PG12 (io) "PG12/FSMC_NE4", 128 PG13 (io) "PG13/FSMC_A24", 129 PG14 (io) "PG14/FSMC_A25", 132 PG15 (io), 138 BOOT0 (in), 141 PE0 (io) "PE0/TIM4_ETR/FSMC_NBL0", 142 PE1 (io) "PE1/FSMC_NBL1"
part C pins: 6 VBAT (power), 16 VSS_5 (power), 17 VDD_5 (power), 30 VSSA (power), 31 VREF- (power), 32 VREF+ (power), 33 VDDA (power), 38 VSS_4 (power), 39 VDD_4 (power), 51 VSS_6 (power), 52 VDD_6 (power), 61 VSS_7 (power), 62 VDD_7 (power), 71 VSS_1 (power), 72 VDD_1 (power), 83 VSS_8 (power), 84 VDD_8 (power), 94 VSS_9 (power), 95 VDD_9 (power), 107 VSS_2 (power), 108 VDD_2 (power), 120 VSS_10 (power), 121 VDD_10 (power), 130 VSS_11 (power), 131 VDD_11 (power), 143 VSS_3 (power), 144 VDD_3 (power)

## STM32F101ZGT6
designator U?
ARM Cortex-M3 32-bit MCU, 1024 KB Flash, 80 KB Internal RAM, 112 I/Os, 144-pin LQFP, -40 to 85 degC, Tray; PartNumber: STM32F101ZGT6; A/D Converter: 2x12-bit (16 Channel); D/A Converter: 2x12-bit (2 Channel); FLASH Size (Prog) (kB): 1024; I/Os (High Current): 112; Internal RAM Size (kB): 80; Operating Frequency(F) (Processor speed) (MHz): 36; Supply Voltage(Vcc) min (V): 2; DatasheetVersion: Rev. 2; PackageVersion: Rev. 4, 06/2013; PackageReference: LQFP144; PackageDescription: 144-Pin Low Profile Quad Flat Package, 20 x 20 mm Body, 0.5 mm Pitch; Supplier 1: Digi-Key; Supplier Part Number 1: 497-11117-ND; Supplier 2: Farnell; Supplier Part Number 2: 2215212; Supplier 3: Newark; Supplier Part Number 3: 46W2181; Supplier 4: Newark; Supplier Part Number 4: 21T4015; Supplier 5: Mouser; Supplier Part Number 5: 511-STM32F101ZGT6; Core: ARM Cortex-M3; Packing: Tray; Mounting Technology: Surface Mount; ComponentLink1Description: Manufacturer URL; ComponentLink1URL: http://www.st.com/web/en/home.html; ComponentLink2Description: Datasheet; ComponentLink2URL: http://www.st.com/st-web-ui/static/active/en/resource/technical/document/datasheet/CD00253739.pdf; ComponentLink3Description: Package Specification; ComponentLink3URL: http://www.st.com/st-web-ui/static/active/en/resource/technical/document/datasheet/DM00037051.pdf
footprint STM-LQFP144_N (Thin QFP, 144-Leads, Body 20x20mm, Pitch 0.5mm, IPC Medium Density)
footprint STM-LQFP144_L (Thin QFP, 144-Leads, Body 20x20mm, Pitch 0.5mm, IPC High Density)
footprint STM-LQFP144_M (Thin QFP, 144-Leads, Body 20x20mm, Pitch 0.5mm, IPC Low Density)
footprint STM-LQFP144_V (Thin QFP, 144-Leads, Body 20x20mm, Pitch 0.5mm, ST Recommended)
part A pins: 7 PC13-TAMPER-RTC (io) "PC13-TAMPER-RTC/PC13/TAMPER-RTC", 8 PC14-OSC32_IN (io) "PC14-OSC32_IN/PC14/OSC32_IN", 9 PC15-OSC32_OUT (io) "PC15-OSC32_OUT/PC15/OSC32_OUT", 26 PC0 (io) "PC0/ADC_IN10", 27 PC1 (io) "PC1/ADC_IN11", 28 PC2 (io) "PC2/ADC_IN12", 29 PC3 (io) "PC3/ADC_IN13", 34 PA0-WKUP (io) "PA0-WKUP/PA0/WKUP/USART2_CTS/ADC_IN0/TIM5_CH1/TIM2_CH1_ETR", 35 PA1 (io) "PA1/USART2_RTS/ADC_IN1/TIM5_CH2/TIM2_CH2", 36 PA2 (io) "PA2/USART2_TX/TIM5_CH3/ADC_IN2/TIM2_CH3/TIM9_CH1", 37 PA3 (io) "PA3/USART2_RX/TIM5_CH4/ADC_IN3/TIM2_CH4/TIM9_CH2", 40 PA4 (io) "PA4/SPI1_NSS/DAC_OUT1/ADC_IN4/USART2_CK", 41 PA5 (io) "PA5/SPI1_SCK/DAC_OUT2/ADC_IN5", 42 PA6 (io) "PA6/SPI1_MISO/ADC_IN6/TIM3_CH1/TIM13_CH1", 43 PA7 (io) "PA7/SPI1_MOSI/ADC_IN7/TIM3_CH2/TIM14_CH1", 44 PC4 (io) "PC4/ADC_IN14", 45 PC5 (io) "PC5/ADC_IN15", 46 PB0 (io) "PB0/ADC_IN8/TIM3_CH3", 47 PB1 (io) "PB1/ADC_IN9/TIM3_CH4", 48 PB2 (io) "PB2/BOOT1", 69 PB10 (io) "PB10/I2C2_SCL/USART3_TX/TIM2_CH3", 70 PB11 (io) "PB11/I2C2_SDA/USART3_RX/TIM2_CH4", 73 PB12 (io) "PB12/SPI2_NSS/I2C2_SMBA/USART3_CK", 74 PB13 (io) "PB13/SPI2_SCK/USART3_CTS", 75 PB14 (io) "PB14/SPI2_MISO/USART3_RTS/TIM12_CH1", 76 PB15 (io) "PB15/SPI2_MOSI/TIM12_CH2", 77 PD8 (io) "PD8/FSMC_D13/USART3_TX", 78 PD9 (io) "PD9/FSMC_D14/USART3_RX", 79 PD10 (io) "PD10/FSMC_D15/USART3_CK", 80 PD11 (io) "PD11/FSMC_A16/USART3_CTS", 81 PD12 (io) "PD12/FSMC_A17/TIM4_CH1/USART3_RTS", 82 PD13 (io) "PD13/FSMC_A18/TIM4_CH2", 85 PD14 (io) "PD14/FSMC_D0/TIM4_CH3", 86 PD15 (io) "PD15/FSMC_D1/TIM4_CH4", 96 PC6 (io) "PC6/TIM3_CH1", 97 PC7 (io) "PC7/TIM3_CH2", 98 PC8 (io) "PC8/TIM3_CH3", 99 PC9 (io) "PC9/TIM3_CH4", 100 PA8 (io) "PA8/USART1_CK/MCO", 101 PA9 (io) "PA9/USART1_TX", 102 PA10 (io) "PA10/USART1_RX", 103 PA11 (io) "PA11/USART1_CTS", 104 PA12 (io) "PA12/USART1_RTS", 105 PA13 (io) "PA13/JTMS-SWDIO", 109 PA14 (io) "PA14/JTCK-SWCLK", 110 PA15 (io) "PA15/JTDI/SPI3_NSS/TIM2_CH1_ETR/SPI1_NSS", 111 PC10 (io) "PC10/UART4_TX/USART3_TX", 112 PC11 (io) "PC11/UART4_RX/USART3_RX", 113 PC12 (io) "PC12/UART5_TX/USART3_CK", 114 PD0 (io) "PD0/OSC_IN/FSMC_D2", 115 PD1 (io) "PD1/OSC_OUT/FSMC_D3", 116 PD2 (io) "PD2/TIM3_ETR/UART5_RX", 117 PD3 (io) "PD3/FSMC_CLK/USART2_CTS", 118 PD4 (io) "PD4/FSMC_NOE/USART2_RTS", 119 PD5 (io) "PD5/FSMC_NWE/USART2_TX", 122 PD6 (io) "PD6/FSMC_NWAIT/USART2_RX", 123 PD7 (io) "PD7/FSMC_NE1/FSMC_NCE2/USART2_CK", 133 PB3 (io) "PB3/JTDO/SPI3_SCK/TIM2_CH2/TRACESWO/SPI1_SCK", 134 PB4 (io) "PB4/NJTRST/SPI3_MISO/TIM3_CH1/SPI1_MISO", 135 PB5 (io) "PB5/I2C1_SMBA/SPI3_MOSI/TIM3_CH2/SPI1_MOSI", 136 PB6 (io) "PB6/I2C1_SCL/TIM4_CH1/USART1_TX", 137 PB7 (io) "PB7/I2C1_SDA/FSMC_NADV/TIM4_CH2/USART1_RX", 139 PB8 (io) "PB8/TIM4_CH3/I2C1_SCL", 140 PB9 (io) "PB9/TIM4_CH4/I2C1_SDA"
part B pins: 1 PE2 (io) "PE2/TRACECLK/FSMC_A23", 2 PE3 (io) "PE3/TRACED0/FSMC_A19", 3 PE4 (io) "PE4/TRACED1/FSMC_A20", 4 PE5 (io) "PE5/TRACED2/FSMC_A21/TIM9_CH1", 5 PE6 (io) "PE6/TRACED3/FSMC_A22/TIM9_CH2", 10 PF0 (io) "PF0/FSMC_A0", 11 PF1 (io) "PF1/FSMC_A1", 12 PF2 (io) "PF2/FSMC_A2", 13 PF3 (io) "PF3/FSMC_A3", 14 PF4 (io) "PF4/FSMC_A4", 15 PF5 (io) "PF5/FSMC_A5", 18 PF6 (io) "PF6/FSMC_NIORD/TIM10_CH1", 19 PF7 (io) "PF7/FSMC_NREG/TIM11_CH1", 20 PF8 (io) "PF8/FSMC_NIOWR/TIM3_CH1", 21 PF9 (io) "PF9/FSMC_CD/TIM14_CH1", 22 PF10 (io) "PF10/FSMC_INTR", 23 OSC_IN (in), 24 OSC_OUT, 25 NRST (io), 49 PF11 (io) "PF11/FSMC_NIOS16", 50 PF12 (io) "PF12/FSMC_A6", 53 PF13 (io) "PF13/FSMC_A7", 54 PF14 (io) "PF14/FSMC_A8", 55 PF15 (io) "PF15/FSMC_A9", 56 PG0 (io) "PG0/FSMC_A10", 57 PG1 (io) "PG1/FSMC_A11", 58 PE7 (io) "PE7/FSMC_D4", 59 PE8 (io) "PE8/FSMC_D5", 60 PE9 (io) "PE9/FSMC_D6", 63 PE10 (io) "PE10/FSMC_D7", 64 PE11 (io) "PE11/FSMC_D8", 65 PE12 (io) "PE12/FSMC_D9", 66 PE13 (io) "PE13/FSMC_D10", 67 PE14 (io) "PE14/FSMC_D11", 68 PE15 (io) "PE15/FSMC_D12", 87 PG2 (io) "PG2/FSMC_A12", 88 PG3 (io) "PG3/FSMC_A13", 89 PG4 (io) "PG4/FSMC_A14", 90 PG5 (io) "PG5/FSMC_A15", 91 PG6 (io) "PG6/FSMC_INT2", 92 PG7 (io) "PG7/FSMC_INT3", 93 PG8 (io), 106 NC, 124 PG9 (io) "PG9/FSMC_NE2/FSMC_NCE3", 125 PG10 (io) "PG10/FSMC_NE3/FSMC_NCE4_1", 126 PG11 (io) "PG11/FSMC_NCE4_2", 127 PG12 (io) "PG12/FSMC_NE4", 128 PG13 (io) "PG13/FSMC_A24", 129 PG14 (io) "PG14/FSMC_A25", 132 PG15 (io), 138 BOOT0 (in), 141 PE0 (io) "PE0/TIM4_ETR/FSMC_NBL0", 142 PE1 (io) "PE1/FSMC_NBL1"
part C pins: 6 VBAT (power), 16 VSS_5 (power), 17 VDD_5 (power), 30 VSSA (power), 31 VREF- (power), 32 VREF+ (power), 33 VDDA (power), 38 VSS_4 (power), 39 VDD_4 (power), 51 VSS_6 (power), 52 VDD_6 (power), 61 VSS_7 (power), 62 VDD_7 (power), 71 VSS_1 (power), 72 VDD_1 (power), 83 VSS_8 (power), 84 VDD_8 (power), 94 VSS_9 (power), 95 VDD_9 (power), 107 VSS_2 (power), 108 VDD_2 (power), 120 VSS_10 (power), 121 VDD_10 (power), 130 VSS_11 (power), 131 VDD_11 (power), 143 VSS_3 (power), 144 VDD_3 (power)

## STM32F102C4T6A
designator U?
ARM Cortex-M3 32-bit MCU, 16 KB Flash, 4 KB Internal RAM, 37 I/Os, 48-pin LQFP, -40 to 85 degC, Tray; PartNumber: STM32F102C4T6A; A/D Converter: 1x12-bit (10 Channel); FLASH Size (Prog) (kB): 16; I/Os (High Current): 37; Internal RAM Size (kB): 4; Operating Frequency(F) (Processor speed) (MHz): 48; Supply Voltage(Vcc) min (V): 2; DatasheetVersion: Rev. 4; PackageVersion: Rev. 6, 06/2013; PackageReference: LQFP48; PackageDescription: 48-Pin Low Profile Quad Flat Package, 7 x 7 mm Body, 0.5 mm Pitch; Supplier 1: Digi-Key; Supplier Part Number 1: 497-8305-ND; Supplier 2: Farnell; Supplier Part Number 2: 2060889; Supplier 3: Newark; Supplier Part Number 3: 65T3771; Supplier 4: Mouser; Supplier Part Number 4: 511-STM32F102C4T6A; Core: ARM Cortex-M3; Packing: Tray; Mounting Technology: Surface Mount; ComponentLink1Description: Manufacturer URL; ComponentLink1URL: http://www.st.com/web/en/home.html; ComponentLink2Description: Datasheet; ComponentLink2URL: http://www.st.com/st-web-ui/static/active/en/resource/technical/document/datasheet/CD00210833.pdf; ComponentLink3Description: Package Specification; ComponentLink3URL: http://www.st.com/st-web-ui/static/active/en/resource/technical/document/datasheet/DM00058181.pdf
footprint STM-LQFP48_N (QFP, 48-Leads, Body 7x7mm, Pitch 0.5mm, IPC Medium Density)
footprint STM-LQFP48_L (QFP, 48-Leads, Body 7x7mm, Pitch 0.5mm, IPC High Density)
footprint STM-LQFP48_M (QFP, 48-Leads, Body 7x7mm, Pitch 0.5mm, IPC Low Density)
part A pins: 2 PC13-TAMPER-RTC (io) "PC13-TAMPER-RTC/PC13/TAMPER-RTC", 3 PC14-OSC32_IN (io) "PC14-OSC32_IN/PC14/OSC32_IN", 4 PC15-OSC32_OUT (io) "PC15-OSC32_OUT/PC15/OSC32_OUT", 5 PD0-OSC_IN (io) "PD0/OSC_IN", 6 PD1-OSC_OUT (io) "PD1/OSC_OUT", 7 NRST (io), 10 PA0-WKUP (io) "PA0-WKUP/PA0/WKUP/USART2_CTS/ADC_IN0/TIM2_CH1_ETR", 11 PA1 (io) "PA1/USART2_RTS/ADC_IN1/TIM2_CH2", 12 PA2 (io) "PA2/USART2_TX/ADC_IN2/TIM2_CH3", 13 PA3 (io) "PA3/USART2_RX/ADC_IN3/TIM2_CH4", 14 PA4 (io) "PA4/SPI_NSS/ADC_IN4/USART2_CK", 15 PA5 (io) "PA5/SPI_SCK/ADC_IN5", 16 PA6 (io) "PA6/SPI_MISO/ADC_IN6/TIM3_CH1", 17 PA7 (io) "PA7/SPI_MOSI/ADC_IN7/TIM3_CH2", 18 PB0 (io) "PB0/ADC_IN8/TIM3_CH3", 19 PB1 (io) "PB1/ADC_IN9/TIM3_CH4", 20 PB2 (io) "PB2/BOOT1", 21 PB10 (io) "PB10/TIM2_CH3", 22 PB11 (io) "PB11/TIM2_CH4", 25 PB12 (io), 26 PB13 (io), 27 PB14 (io), 28 PB15 (io), 29 PA8 (io) "PA8/USART1_CK/MCO", 30 PA9 (io) "PA9/USART1_TX", 31 PA10 (io) "PA10/USART1_RX", 32 PA11 (io) "PA11/USART1_CTS/USB_DM", 33 PA12 (io) "PA12/USART1_RTS/USB_DP", 34 PA13 (io) "PA13/JTMS-SWDIO", 37 PA14 (io) "PA14/JTCK/SWCLK", 38 PA15 (io) "PA15/JTDI/TIM2_CH1_ETR/SPI_NSS", 39 PB3 (io) "PB3/JTDO/TIM2_CH2/TRACESWO/SPI_SCK", 40 PB4 (io) "PB4/NJTRST/TIM3_CH1/SPI_MISO", 41 PB5 (io) "PB5/I2C_SMBA/TIM3_CH2/SPI_MOSI", 42 PB6 (io) "PB6/I2C_SCL/USART1_TX", 43 PB7 (io) "PB7/I2C_SDA/USART1_RX", 44 BOOT0 (in), 45 PB8 (io) "PB8/I2C_SCL", 46 PB9 (io) "PB9/I2C_SDA"
part B pins: 1 VBAT (power), 8 VSSA (power), 9 VDDA (power), 23 VSS_1 (power), 24 VDD_1 (power), 35 VSS_2 (power), 36 VDD_2 (power), 47 VSS_3 (power), 48 VDD_3 (power)

## STM32F102C4T6ATR
designator U?
ARM Cortex-M3 32-bit MCU, 16 KB Flash, 4 KB Internal RAM, 37 I/Os, 48-pin LQFP, -40 to 85 degC, Tape and Reel; PartNumber: STM32F102C4T6ATR; A/D Converter: 1x12-bit (10 Channel); FLASH Size (Prog) (kB): 16; I/Os (High Current): 37; Internal RAM Size (kB): 4; Operating Frequency(F) (Processor speed) (MHz): 48; Supply Voltage(Vcc) min (V): 2; DatasheetVersion: Rev. 4; PackageVersion: Rev. 6, 06/2013; PackageReference: LQFP48; PackageDescription: 48-Pin Low Profile Quad Flat Package, 7 x 7 mm Body, 0.5 mm Pitch; Supplier 1: Digi-Key; Supplier Part Number 1: STM32F102C4T6ATR-ND; Supplier 2: Mouser; Supplier Part Number 2: 511-STM32F102C4T6ATR; Core: ARM Cortex-M3; Packing: Tape and Reel; Mounting Technology: Surface Mount; ComponentLink1Description: Manufacturer URL; ComponentLink1URL: http://www.st.com/web/en/home.html; ComponentLink2Description: Datasheet; ComponentLink2URL: http://www.st.com/st-web-ui/static/active/en/resource/technical/document/datasheet/CD00210833.pdf; ComponentLink3Description: Package Specification; ComponentLink3URL: http://www.st.com/st-web-ui/static/active/en/resource/technical/document/datasheet/DM00058181.pdf
footprint STM-LQFP48_N (QFP, 48-Leads, Body 7x7mm, Pitch 0.5mm, IPC Medium Density)
footprint STM-LQFP48_L (QFP, 48-Leads, Body 7x7mm, Pitch 0.5mm, IPC High Density)
footprint STM-LQFP48_M (QFP, 48-Leads, Body 7x7mm, Pitch 0.5mm, IPC Low Density)
part A pins: 2 PC13-TAMPER-RTC (io) "PC13-TAMPER-RTC/PC13/TAMPER-RTC", 3 PC14-OSC32_IN (io) "PC14-OSC32_IN/PC14/OSC32_IN", 4 PC15-OSC32_OUT (io) "PC15-OSC32_OUT/PC15/OSC32_OUT", 5 PD0-OSC_IN (io) "PD0/OSC_IN", 6 PD1-OSC_OUT (io) "PD1/OSC_OUT", 7 NRST (io), 10 PA0-WKUP (io) "PA0-WKUP/PA0/WKUP/USART2_CTS/ADC_IN0/TIM2_CH1_ETR", 11 PA1 (io) "PA1/USART2_RTS/ADC_IN1/TIM2_CH2", 12 PA2 (io) "PA2/USART2_TX/ADC_IN2/TIM2_CH3", 13 PA3 (io) "PA3/USART2_RX/ADC_IN3/TIM2_CH4", 14 PA4 (io) "PA4/SPI_NSS/ADC_IN4/USART2_CK", 15 PA5 (io) "PA5/SPI_SCK/ADC_IN5", 16 PA6 (io) "PA6/SPI_MISO/ADC_IN6/TIM3_CH1", 17 PA7 (io) "PA7/SPI_MOSI/ADC_IN7/TIM3_CH2", 18 PB0 (io) "PB0/ADC_IN8/TIM3_CH3", 19 PB1 (io) "PB1/ADC_IN9/TIM3_CH4", 20 PB2 (io) "PB2/BOOT1", 21 PB10 (io) "PB10/TIM2_CH3", 22 PB11 (io) "PB11/TIM2_CH4", 25 PB12 (io), 26 PB13 (io), 27 PB14 (io), 28 PB15 (io), 29 PA8 (io) "PA8/USART1_CK/MCO", 30 PA9 (io) "PA9/USART1_TX", 31 PA10 (io) "PA10/USART1_RX", 32 PA11 (io) "PA11/USART1_CTS/USB_DM", 33 PA12 (io) "PA12/USART1_RTS/USB_DP", 34 PA13 (io) "PA13/JTMS-SWDIO", 37 PA14 (io) "PA14/JTCK/SWCLK", 38 PA15 (io) "PA15/JTDI/TIM2_CH1_ETR/SPI_NSS", 39 PB3 (io) "PB3/JTDO/TIM2_CH2/TRACESWO/SPI_SCK", 40 PB4 (io) "PB4/NJTRST/TIM3_CH1/SPI_MISO", 41 PB5 (io) "PB5/I2C_SMBA/TIM3_CH2/SPI_MOSI", 42 PB6 (io) "PB6/I2C_SCL/USART1_TX", 43 PB7 (io) "PB7/I2C_SDA/USART1_RX", 44 BOOT0 (in), 45 PB8 (io) "PB8/I2C_SCL", 46 PB9 (io) "PB9/I2C_SDA"
part B pins: 1 VBAT (power), 8 VSSA (power), 9 VDDA (power), 23 VSS_1 (power), 24 VDD_1 (power), 35 VSS_2 (power), 36 VDD_2 (power), 47 VSS_3 (power), 48 VDD_3 (power)

## STM32F102C6T6A
designator U?
ARM Cortex-M3 32-bit MCU, 32 KB Flash, 6 KB Internal RAM, 37 I/Os, 48-pin LQFP, -40 to 85 degC, Tray; PartNumber: STM32F102C6T6A; A/D Converter: 1x12-bit (10 Channel); FLASH Size (Prog) (kB): 32; I/Os (High Current): 37; Internal RAM Size (kB): 6; Operating Frequency(F) (Processor speed) (MHz): 48; Supply Voltage(Vcc) min (V): 2; DatasheetVersion: Rev. 4; PackageVersion: Rev. 6, 06/2013; PackageReference: LQFP48; PackageDescription: 48-Pin Low Profile Quad Flat Package, 7 x 7 mm Body, 0.5 mm Pitch; Supplier 1: Digi-Key; Supplier Part Number 1: 497-8306-ND; Supplier 2: Farnell; Supplier Part Number 2: 1796077; Supplier 3: Newark; Supplier Part Number 3: 57P1211; Supplier 4: Mouser; Supplier Part Number 4: 511-STM32F102C6T6A; Core: ARM Cortex-M3; Packing: Tray; Mounting Technology: Surface Mount; ComponentLink1Description: Manufacturer URL; ComponentLink1URL: http://www.st.com/web/en/home.html; ComponentLink2Description: Datasheet; ComponentLink2URL: http://www.st.com/st-web-ui/static/active/en/resource/technical/document/datasheet/CD00210833.pdf; ComponentLink3Description: Package Specification; ComponentLink3URL: http://www.st.com/st-web-ui/static/active/en/resource/technical/document/datasheet/DM00058181.pdf
footprint STM-LQFP48_N (QFP, 48-Leads, Body 7x7mm, Pitch 0.5mm, IPC Medium Density)
footprint STM-LQFP48_L (QFP, 48-Leads, Body 7x7mm, Pitch 0.5mm, IPC High Density)
footprint STM-LQFP48_M (QFP, 48-Leads, Body 7x7mm, Pitch 0.5mm, IPC Low Density)
part A pins: 2 PC13-TAMPER-RTC (io) "PC13-TAMPER-RTC/PC13/TAMPER-RTC", 3 PC14-OSC32_IN (io) "PC14-OSC32_IN/PC14/OSC32_IN", 4 PC15-OSC32_OUT (io) "PC15-OSC32_OUT/PC15/OSC32_OUT", 5 PD0-OSC_IN (io) "PD0/OSC_IN", 6 PD1-OSC_OUT (io) "PD1/OSC_OUT", 7 NRST (io), 10 PA0-WKUP (io) "PA0-WKUP/PA0/WKUP/USART2_CTS/ADC_IN0/TIM2_CH1_ETR", 11 PA1 (io) "PA1/USART2_RTS/ADC_IN1/TIM2_CH2", 12 PA2 (io) "PA2/USART2_TX/ADC_IN2/TIM2_CH3", 13 PA3 (io) "PA3/USART2_RX/ADC_IN3/TIM2_CH4", 14 PA4 (io) "PA4/SPI_NSS/ADC_IN4/USART2_CK", 15 PA5 (io) "PA5/SPI_SCK/ADC_IN5", 16 PA6 (io) "PA6/SPI_MISO/ADC_IN6/TIM3_CH1", 17 PA7 (io) "PA7/SPI_MOSI/ADC_IN7/TIM3_CH2", 18 PB0 (io) "PB0/ADC_IN8/TIM3_CH3", 19 PB1 (io) "PB1/ADC_IN9/TIM3_CH4", 20 PB2 (io) "PB2/BOOT1", 21 PB10 (io) "PB10/TIM2_CH3", 22 PB11 (io) "PB11/TIM2_CH4", 25 PB12 (io), 26 PB13 (io), 27 PB14 (io), 28 PB15 (io), 29 PA8 (io) "PA8/USART1_CK/MCO", 30 PA9 (io) "PA9/USART1_TX", 31 PA10 (io) "PA10/USART1_RX", 32 PA11 (io) "PA11/USART1_CTS/USB_DM", 33 PA12 (io) "PA12/USART1_RTS/USB_DP", 34 PA13 (io) "PA13/JTMS-SWDIO", 37 PA14 (io) "PA14/JTCK/SWCLK", 38 PA15 (io) "PA15/JTDI/TIM2_CH1_ETR/SPI_NSS", 39 PB3 (io) "PB3/JTDO/TIM2_CH2/TRACESWO/SPI_SCK", 40 PB4 (io) "PB4/NJTRST/TIM3_CH1/SPI_MISO", 41 PB5 (io) "PB5/I2C_SMBA/TIM3_CH2/SPI_MOSI", 42 PB6 (io) "PB6/I2C_SCL/USART1_TX", 43 PB7 (io) "PB7/I2C_SDA/USART1_RX", 44 BOOT0 (in), 45 PB8 (io) "PB8/I2C_SCL", 46 PB9 (io) "PB9/I2C_SDA"
part B pins: 1 VBAT (power), 8 VSSA (power), 9 VDDA (power), 23 VSS_1 (power), 24 VDD_1 (power), 35 VSS_2 (power), 36 VDD_2 (power), 47 VSS_3 (power), 48 VDD_3 (power)

## STM32F102C6T6ATR
designator U?
ARM Cortex-M3 32-bit MCU, 32 KB Flash, 6 KB Internal RAM, 37 I/Os, 48-pin LQFP, -40 to 85 degC, Tape and Reel; PartNumber: STM32F102C6T6ATR; A/D Converter: 1x12-bit (10 Channel); FLASH Size (Prog) (kB): 32; I/Os (High Current): 37; Internal RAM Size (kB): 6; Operating Frequency(F) (Processor speed) (MHz): 48; Supply Voltage(Vcc) min (V): 2; DatasheetVersion: Rev. 4; PackageVersion: Rev. 6, 06/2013; PackageReference: LQFP48; PackageDescription: 48-Pin Low Profile Quad Flat Package, 7 x 7 mm Body, 0.5 mm Pitch; Supplier 1: Digi-Key; Supplier Part Number 1: STM32F102C6T6ATR-ND; Supplier 2: Mouser; Supplier Part Number 2: 511-STM32F102C6T6ATR; Core: ARM Cortex-M3; Packing: Tape and Reel; Mounting Technology: Surface Mount; ComponentLink1Description: Manufacturer URL; ComponentLink1URL: http://www.st.com/web/en/home.html; ComponentLink2Description: Datasheet; ComponentLink2URL: http://www.st.com/st-web-ui/static/active/en/resource/technical/document/datasheet/CD00210833.pdf; ComponentLink3Description: Package Specification; ComponentLink3URL: http://www.st.com/st-web-ui/static/active/en/resource/technical/document/datasheet/DM00058181.pdf
footprint STM-LQFP48_N (QFP, 48-Leads, Body 7x7mm, Pitch 0.5mm, IPC Medium Density)
footprint STM-LQFP48_L (QFP, 48-Leads, Body 7x7mm, Pitch 0.5mm, IPC High Density)
footprint STM-LQFP48_M (QFP, 48-Leads, Body 7x7mm, Pitch 0.5mm, IPC Low Density)
part A pins: 2 PC13-TAMPER-RTC (io) "PC13-TAMPER-RTC/PC13/TAMPER-RTC", 3 PC14-OSC32_IN (io) "PC14-OSC32_IN/PC14/OSC32_IN", 4 PC15-OSC32_OUT (io) "PC15-OSC32_OUT/PC15/OSC32_OUT", 5 PD0-OSC_IN (io) "PD0/OSC_IN", 6 PD1-OSC_OUT (io) "PD1/OSC_OUT", 7 NRST (io), 10 PA0-WKUP (io) "PA0-WKUP/PA0/WKUP/USART2_CTS/ADC_IN0/TIM2_CH1_ETR", 11 PA1 (io) "PA1/USART2_RTS/ADC_IN1/TIM2_CH2", 12 PA2 (io) "PA2/USART2_TX/ADC_IN2/TIM2_CH3", 13 PA3 (io) "PA3/USART2_RX/ADC_IN3/TIM2_CH4", 14 PA4 (io) "PA4/SPI_NSS/ADC_IN4/USART2_CK", 15 PA5 (io) "PA5/SPI_SCK/ADC_IN5", 16 PA6 (io) "PA6/SPI_MISO/ADC_IN6/TIM3_CH1", 17 PA7 (io) "PA7/SPI_MOSI/ADC_IN7/TIM3_CH2", 18 PB0 (io) "PB0/ADC_IN8/TIM3_CH3", 19 PB1 (io) "PB1/ADC_IN9/TIM3_CH4", 20 PB2 (io) "PB2/BOOT1", 21 PB10 (io) "PB10/TIM2_CH3", 22 PB11 (io) "PB11/TIM2_CH4", 25 PB12 (io), 26 PB13 (io), 27 PB14 (io), 28 PB15 (io), 29 PA8 (io) "PA8/USART1_CK/MCO", 30 PA9 (io) "PA9/USART1_TX", 31 PA10 (io) "PA10/USART1_RX", 32 PA11 (io) "PA11/USART1_CTS/USB_DM", 33 PA12 (io) "PA12/USART1_RTS/USB_DP", 34 PA13 (io) "PA13/JTMS-SWDIO", 37 PA14 (io) "PA14/JTCK/SWCLK", 38 PA15 (io) "PA15/JTDI/TIM2_CH1_ETR/SPI_NSS", 39 PB3 (io) "PB3/JTDO/TIM2_CH2/TRACESWO/SPI_SCK", 40 PB4 (io) "PB4/NJTRST/TIM3_CH1/SPI_MISO", 41 PB5 (io) "PB5/I2C_SMBA/TIM3_CH2/SPI_MOSI", 42 PB6 (io) "PB6/I2C_SCL/USART1_TX", 43 PB7 (io) "PB7/I2C_SDA/USART1_RX", 44 BOOT0 (in), 45 PB8 (io) "PB8/I2C_SCL", 46 PB9 (io) "PB9/I2C_SDA"
part B pins: 1 VBAT (power), 8 VSSA (power), 9 VDDA (power), 23 VSS_1 (power), 24 VDD_1 (power), 35 VSS_2 (power), 36 VDD_2 (power), 47 VSS_3 (power), 48 VDD_3 (power)

## STM32F102C8T6
designator U?
ARM Cortex-M3 32-bit MCU, 64 KB Flash, 10 KB Internal RAM, 37 I/Os, 48-pin LQFP, -40 to 85 degC, Tray; PartNumber: STM32F102C8T6; A/D Converter: 1x12-bit (10 Channel); FLASH Size (Prog) (kB): 64; I/Os (High Current): 37; Internal RAM Size (kB): 10; Operating Frequency(F) (Processor speed) (MHz): 48; Supply Voltage(Vcc) min (V): 2; DatasheetVersion: Rev. 5; PackageVersion: Rev. 6, 06/2013; PackageReference: LQFP48; PackageDescription: 48-Pin Low Profile Quad Flat Package, 7 x 7 mm Body, 0.5 mm Pitch; Supplier 1: Digi-Key; Supplier Part Number 1: 497-8307-ND; Supplier 2: Farnell; Supplier Part Number 2: 2333153; Supplier 3: Newark; Supplier Part Number 3: 99W9777; Supplier 4: Mouser; Supplier Part Number 4: 511-STM32F102C8T6; Core: ARM Cortex-M3; Packing: Tray; Mounting Technology: Surface Mount; ComponentLink1Description: Manufacturer URL; ComponentLink1URL: http://www.st.com/web/en/home.html; ComponentLink2Description: Datasheet; ComponentLink2URL: http://www.st.com/st-web-ui/static/active/en/resource/technical/document/datasheet/CD00210831.pdf; ComponentLink3Description: Package Specification; ComponentLink3URL: http://www.st.com/st-web-ui/static/active/en/resource/technical/document/datasheet/DM00058181.pdf
footprint STM-LQFP48_N (QFP, 48-Leads, Body 7x7mm, Pitch 0.5mm, IPC Medium Density)
footprint STM-LQFP48_L (QFP, 48-Leads, Body 7x7mm, Pitch 0.5mm, IPC High Density)
footprint STM-LQFP48_M (QFP, 48-Leads, Body 7x7mm, Pitch 0.5mm, IPC Low Density)
part A pins: 2 PC13-TAMPER-RTC (io) "PC13-TAMPER-RTC/PC13/TAMPER-RTC", 3 PC14-OSC32_IN (io) "PC14-OSC32_IN/PC14/OSC32_IN", 4 PC15-OSC32_OUT (io) "PC15-OSC32_OUT/PC15/OSC32_OUT", 5 PD0-OSC_IN (io) "PD0/OSC_IN", 6 PD1-OSC_OUT (io) "PD1/OSC_OUT", 7 NRST (io), 10 PA0-WKUP (io) "PA0-WKUP/PA0/WKUP/USART2_CTS/ADC_IN0/TIM2_CH1_ETR", 11 PA1 (io) "PA1/USART2_RTS/ADC_IN1/TIM2_CH2", 12 PA2 (io) "PA2/USART2_TX/ADC_IN2/TIM2_CH3", 13 PA3 (io) "PA3/USART2_RX/ADC_IN3/TIM2_CH4", 14 PA4 (io) "PA4/SPI1_NSS/ADC_IN4/USART2_CK", 15 PA5 (io) "PA5/SPI1_SCK/ADC_IN5", 16 PA6 (io) "PA6/SPI1_MISO/ADC_IN6/TIM3_CH1", 17 PA7 (io) "PA7/SPI1_MOSI/ADC_IN7/TIM3_CH2", 18 PB0 (io) "PB0/ADC_IN8/TIM3_CH3", 19 PB1 (io) "PB1/ADC_IN9/TIM3_CH4", 20 PB2 (io) "PB2/BOOT1", 21 PB10 (io) "PB10/I2C2_SCL/USART3_TX/TIM2_CH3", 22 PB11 (io) "PB11/I2C2_SDA/USART3_RX/TIM2_CH4", 25 PB12 (io) "PB12/SPI2_NSS/I2C2_SMBA/USART3_CK", 26 PB13 (io) "PB13/SPI2_SCK/USART3_CTS", 27 PB14 (io) "PB14/SPI2_MISO/USART3_RTS", 28 PB15 (io) "PB15/SPI2_MOSI", 29 PA8 (io) "PA8/USART1_CK/MCO", 30 PA9 (io) "PA9/USART1_TX", 31 PA10 (io) "PA10/USART1_RX", 32 PA11 (io) "PA11/USART1_CTS/USB_DM", 33 PA12 (io) "PA12/USART1_RTS/USB_DP", 34 PA13 (io) "PA13/JTMS-SWDIO", 37 PA14 (io) "PA14/JTCK/SWCLK", 38 PA15 (io) "PA15/JTDI/TIM2_CH1_ETR/SPI1_NSS", 39 PB3 (io) "PB3/JTDO/TIM2_CH2/TRACESWO/SPI1_SCK", 40 PB4 (io) "PB4/NJTRST/TIM3_CH1/SPI1_MISO", 41 PB5 (io) "PB5/I2C1_SMBA/TIM3_CH2/SPI1_MOSI", 42 PB6 (io) "PB6/I2C1_SCL/TIM4_CH1/USART1_TX", 43 PB7 (io) "PB7/I2C1_SDA/TIM4_CH2/USART1_RX", 44 BOOT0 (in), 45 PB8 (io) "PB8/TIM4_CH3/I2C1_SCL", 46 PB9 (io) "PB9/TIM4_CH4/I2C1_SDA"
part B pins: 1 VBAT (power), 8 VSSA (power), 9 VDDA (power), 23 VSS_1 (power), 24 VDD_1 (power), 35 VSS_2 (power), 36 VDD_2 (power), 47 VSS_3 (power), 48 VDD_3 (power)